# EAGLE library part IC_OP-AMP_LM358 (library trosh_devices.eagle.v9)
Dual op-amp
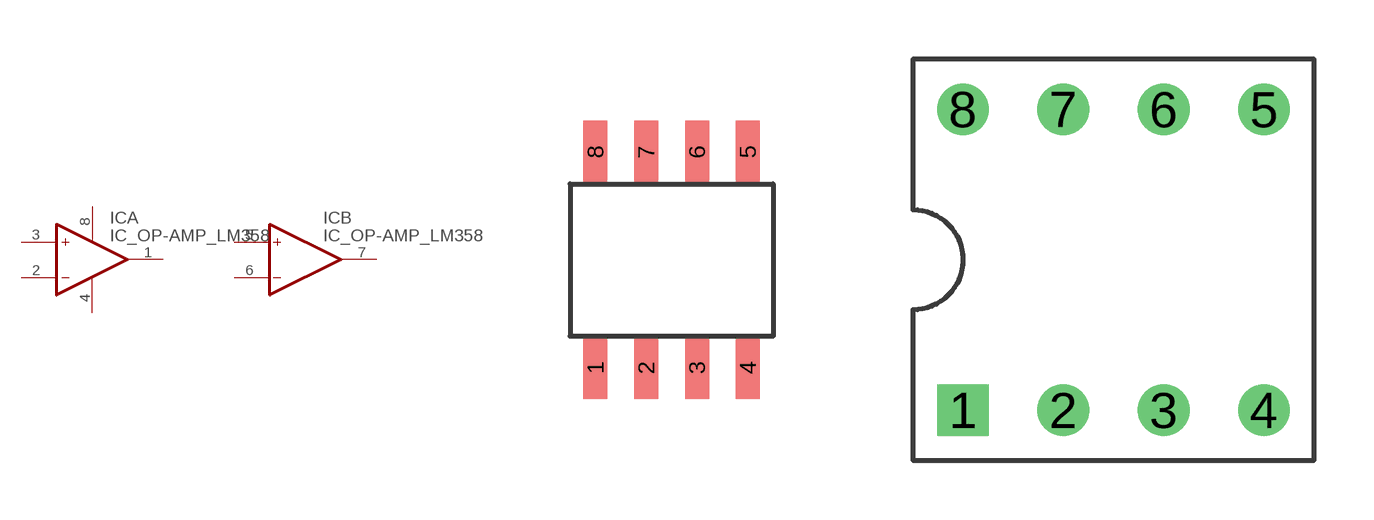
[diagram p6: symbol with the pads of SO-8; footprints SO-8, DIP8]

Designator prefix IC; gates A=OPAMP_V+- B=OPAMP

## IC_OP-AMP_LM358-SO8  [SO-8]
1  A:OUT  out
2  A:-  in
3  A:+  in
4  A:V-  sup
5  B:+  in
6  B:-  in
7  B:OUT  out
8  A:V+  sup

## IC_OP-AMP_LM358-DIP-8  [DIP8]
Pads as for SO-8

## IC_OP-AMP_LM358-EXPAD  [DIP8-EXPAD]
Pads as for SO-8

## Footprint SO-8 (pad centres in mm)
smd 0.6 x 1.55: 1 -1.905,-2.69; 2 -0.635,-2.69; 3 0.635,-2.69; 4 1.905,-2.69; 5 1.905,2.71; 6 0.635,2.71; 7 -0.635,2.71; 8 -1.905,2.71

## Footprint DIP8 (pad centres in mm)
drill 0.8 square: 1 -3.81,-3.81
drill 0.8: 2 -1.27,-3.81; 3 1.27,-3.81; 4 3.81,-3.81; 5 3.81,3.81; 6 1.27,3.81; 7 -1.27,3.81; 8 -3.81,3.81

## Footprint DIP8-EXPAD (pad centres in mm)
drill 0.8 pad 1.816 square: 1 -3.81,-3.81
drill 0.8 pad 1.816: 2 -1.27,-3.81; 3 1.27,-3.81; 4 3.81,-3.81; 5 3.81,3.81; 6 1.27,3.81; 7 -1.27,3.81; 8 -3.81,3.81